# Altium schematic symbol library SwitchKey.SchLib: 1 symbol
Pins are listed as number, name and electrical type; pins without a type are passive.

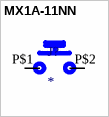
[diagram p0: symbol MX1A-11NN]

## MX1A-11NN
designator J?
Pushbutton Switch SPST-NO Keyswitch Panel Mount, Front; MF: Cherry; MP: MX1A-11NN; Check_prices: https://www.snapeda.com/parts/MX1A-11NN/Cherry/view-part/?ref=eda; Price: None; Availability: In Stock; SnapEDA_Link: https://www.snapeda.com/parts/MX1A-11NN/Cherry/view-part/?ref=snap; Value: *; Package: None; Purchase-URL: https://pricing.snapeda.com/search/part/MX1A-11NN/?ref=eda
footprint CHERRY_MX1A-11NN_SWITCH
pins: P$1 P, P$2 S